# EAGLE library part KSZ8895 (library microchip)
KSZ8895 edit this description Auto generated by make-symbol-device-package-bsdl.ulp Rev. 44 Source: KSZ8895.txt
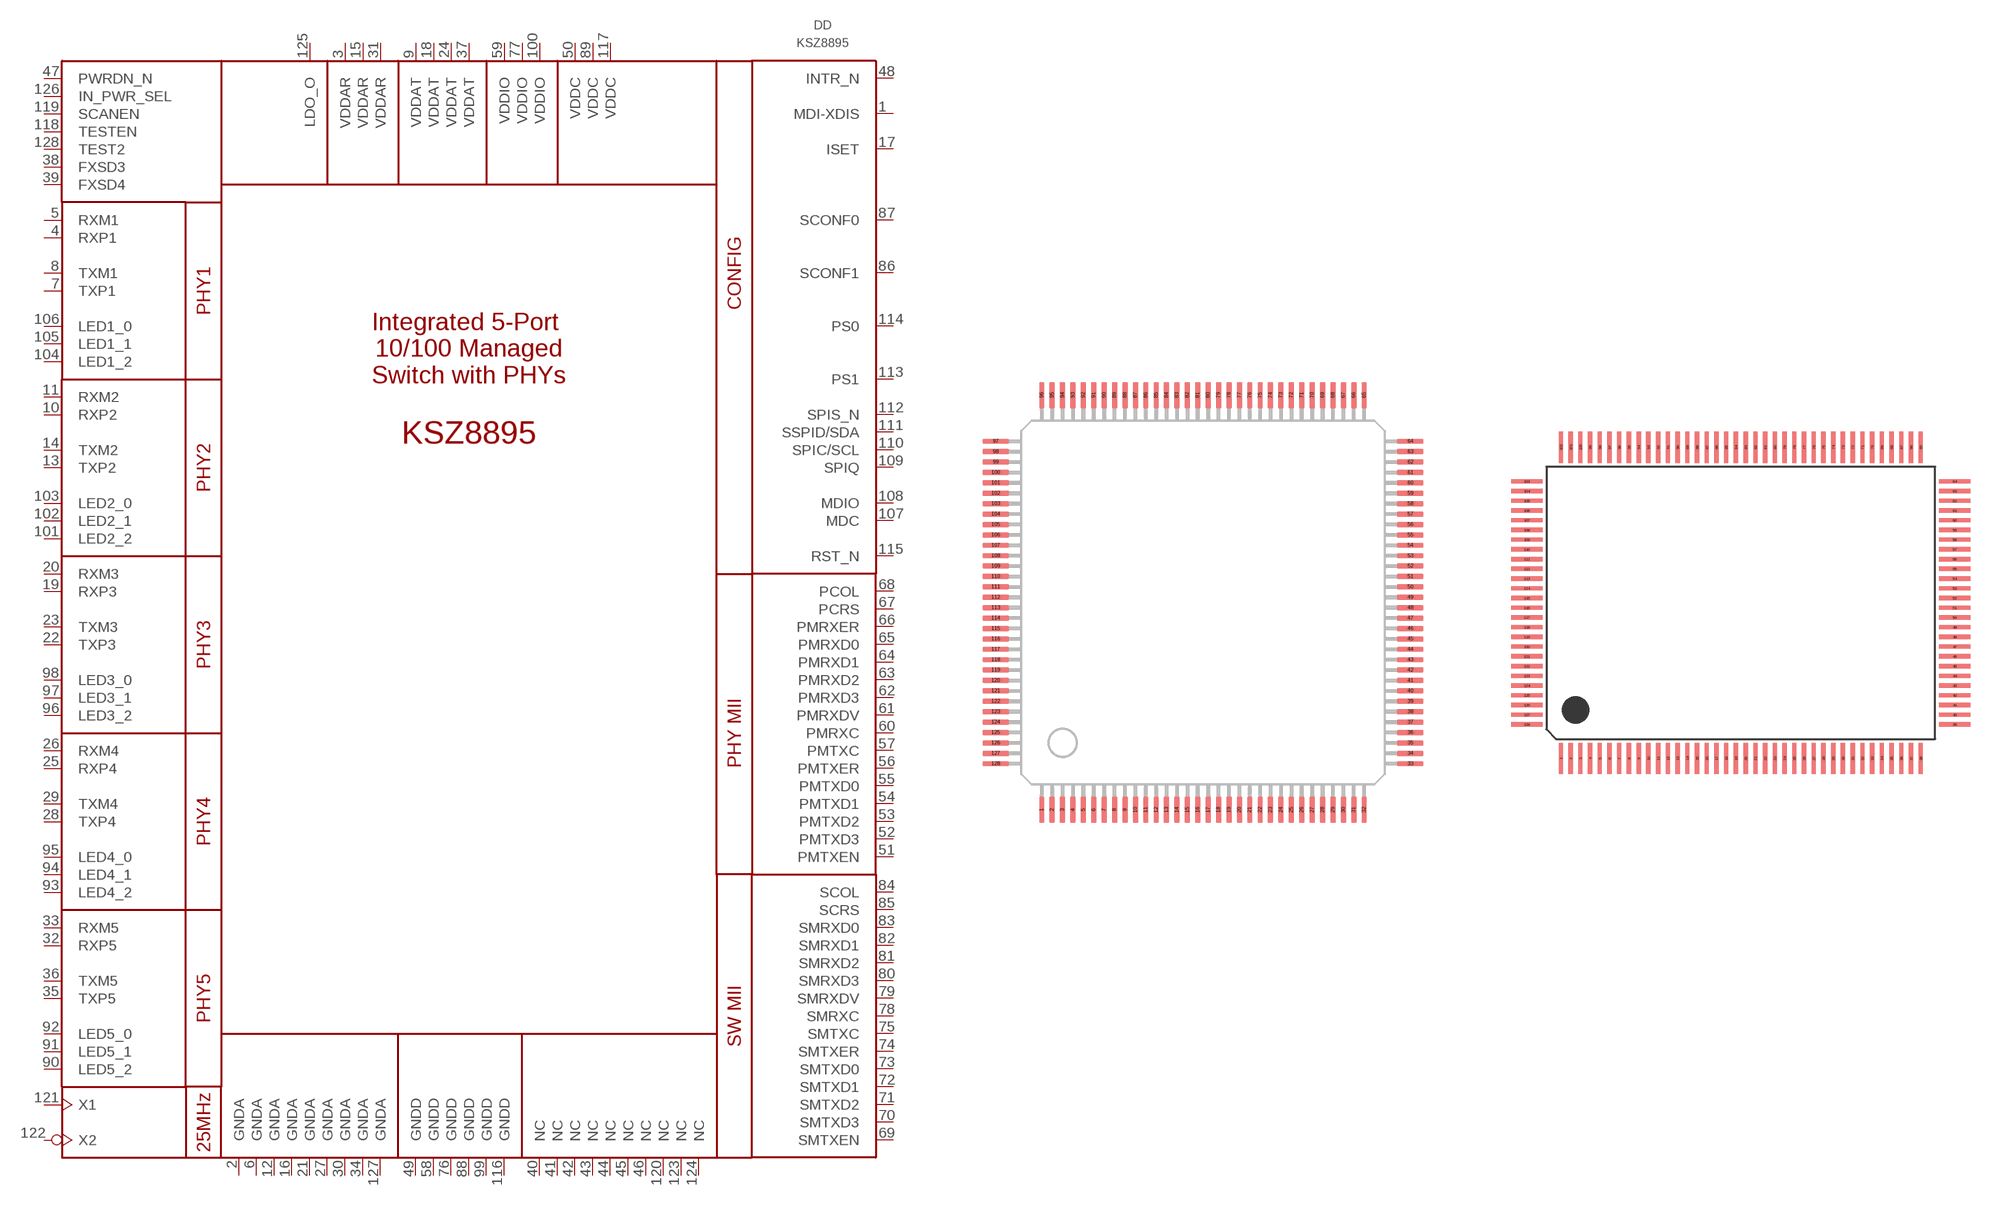
[diagram p4: symbol with the pads of LQFP128; footprints LQFP128, PQFP128]

Designator prefix DD

## KSZ8895MLXI  [LQFP128]
1  MDI-XDIS  in
2  GNDA  pwr
3  VDDAR  pwr
4  RXP1  in
5  RXM1  in
6  GNDA  pwr
7  TXP1  out
8  TXM1  out
9  VDDAT  pwr
10  RXP2  in
11  RXM2  in
12  GNDA  pwr
13  TXP2  out
14  TXM2  out
15  VDDAR  pwr
16  GNDA  pwr
17  ISET  pas
18  VDDAT  pwr
19  RXP3  in
20  RXM3  in
21  GNDA  pwr
22  TXP3  out
23  TXM3  out
24  VDDAT  pwr
25  RXP4  in
26  RXM4  in
27  GNDA  pwr
28  TXP4  out
29  TXM4  out
30  GNDA  pwr
31  VDDAR  pwr
32  RXP5  in
33  RXM5  in
34  GNDA  pwr
35  TXP5  out
36  TXM5  out
37  VDDAT  pwr
38  FXSD3  in
39  FXSD4  in
40  NC  nc
41  NC  nc
42  NC  nc
43  NC  nc
44  NC  nc
45  NC  nc
46  NC  nc
47  PWRDN_N  in
48  INTR_N  out
49  GNDD  pwr
50  VDDC  pwr
51  PMTXEN  in
52  PMTXD3  in
53  PMTXD2  in
54  PMTXD1  in
55  PMTXD0  in
56  PMTXER  in
57  PMTXC
58  GNDD  pwr
59  VDDIO  pwr
60  PMRXC
61  PMRXDV
62  PMRXD3
63  PMRXD2
64  PMRXD1
65  PMRXD0
66  PMRXER
67  PCRS
68  PCOL
69  SMTXEN  in
70  SMTXD3  in
71  SMTXD2  in
72  SMTXD1  in
73  SMTXD0  in
74  SMTXER  in
75  SMTXC
76  GNDD  pwr
77  VDDIO  pwr
78  SMRXC
79  SMRXDV
80  SMRXD3
81  SMRXD2
82  SMRXD1
83  SMRXD0
84  SCOL
85  SCRS
86  SCONF1  in
87  SCONF0  in
88  GNDD  pwr
89  VDDC  pwr
90  LED5_2  out
91  LED5_1  out
92  LED5_0  out
93  LED4_2  out
94  LED4_1  out
95  LED4_0  out
96  LED3_2  out
97  LED3_1  out
98  LED3_0  out
99  GNDD  pwr
100  VDDIO  pwr
101  LED2_2  out
102  LED2_1  out
103  LED2_0  out
104  LED1_2  out
105  LED1_1  out
106  LED1_0  out
107  MDC  out
108  MDIO  out
109  SPIQ  out
110  SPIC/SCL  in
111  SSPID/SDA  in
112  SPIS_N  in
113  PS1  in
114  PS0  in
115  RST_N  in
116  GNDD  pwr
117  VDDC  pwr
118  TESTEN  nc
119  SCANEN  nc
120  NC  nc
121  X1  in
122  X2  out
123  NC  nc
124  NC  nc
125  LDO_O  pwr
126  IN_PWR_SEL  in
127  GNDA  pwr
128  TEST2  nc

## KSZ8895MQXI  [PQFP128]
Pads as for LQFP128

## KSZ8895RQXI  [PQFP128]
Pads as for LQFP128

## KSZ8895FQXI  [PQFP128]
Pads as for LQFP128

## Footprint LQFP128 (pad centres in mm)
smd 0.2 x 1: 1 -6.2,-7.975; 2 -5.8,-7.975; 3 -5.4,-7.975; 4 -5,-7.975; 5 -4.6,-7.975; 6 -4.2,-7.975; 7 -3.8,-7.975; 8 -3.4,-7.975; 9 -3,-7.975; 10 -2.6,-7.975; 11 -2.2,-7.975; 12 -1.8,-7.975; 13 -1.4,-7.975; 14 -1,-7.975; 15 -0.6,-7.975; 16 -0.2,-7.975; 17 0.2,-7.975; 18 0.6,-7.975; 19 1,-7.975; 20 1.4,-7.975; 21 1.8,-7.975; 22 2.2,-7.975; 23 2.6,-7.975; 24 3,-7.975; 25 3.4,-7.975; 26 3.8,-7.975; 27 4.2,-7.975; 28 4.6,-7.975; 29 5,-7.975; 30 5.4,-7.975; 31 5.8,-7.975; 32 6.2,-7.975; 65 6.2,7.975; 66 5.8,7.975; 67 5.4,7.975; 68 5,7.975; 69 4.6,7.975; 70 4.2,7.975; 71 3.8,7.975; 72 3.4,7.975; 73 3,7.975; 74 2.6,7.975; 75 2.2,7.975; 76 1.8,7.975; 77 1.4,7.975; 78 1,7.975; 79 0.6,7.975; 80 0.2,7.975; 81 -0.2,7.975; 82 -0.6,7.975; 83 -1,7.975; 84 -1.4,7.975; 85 -1.8,7.975; 86 -2.2,7.975; 87 -2.6,7.975; 88 -3,7.975; 89 -3.4,7.975; 90 -3.8,7.975; 91 -4.2,7.975; 92 -4.6,7.975; 93 -5,7.975; 94 -5.4,7.975; 95 -5.8,7.975; 96 -6.2,7.975
smd 1 x 0.2: 33 7.975,-6.2; 34 7.975,-5.8; 35 7.975,-5.4; 36 7.975,-5; 37 7.975,-4.6; 38 7.975,-4.2; 39 7.975,-3.8; 40 7.975,-3.4; 41 7.975,-3; 42 7.975,-2.6; 43 7.975,-2.2; 44 7.975,-1.8; 45 7.975,-1.4; 46 7.975,-1; 47 7.975,-0.6; 48 7.975,-0.2; 49 7.975,0.2; 50 7.975,0.6; 51 7.975,1; 52 7.975,1.4; 53 7.975,1.8; 54 7.975,2.2; 55 7.975,2.6; 56 7.975,3; 57 7.975,3.4; 58 7.975,3.8; 59 7.975,4.2; 60 7.975,4.6; 61 7.975,5; 62 7.975,5.4; 63 7.975,5.8; 64 7.975,6.2; 97 -7.975,6.2; 98 -7.975,5.8; 99 -7.975,5.4; 100 -7.975,5; 101 -7.975,4.6; 102 -7.975,4.2; 103 -7.975,3.8; 104 -7.975,3.4; 105 -7.975,3; 106 -7.975,2.6; 107 -7.975,2.2; 108 -7.975,1.8; 109 -7.975,1.4; 110 -7.975,1; 111 -7.975,0.6; 112 -7.975,0.2; 113 -7.975,-0.2; 114 -7.975,-0.6; 115 -7.975,-1; 116 -7.975,-1.4; 117 -7.975,-1.8; 118 -7.975,-2.2; 119 -7.975,-2.6; 120 -7.975,-3; 121 -7.975,-3.4; 122 -7.975,-3.8; 123 -7.975,-4.2; 124 -7.975,-4.6; 125 -7.975,-5; 126 -7.975,-5.4; 127 -7.975,-5.8; 128 -7.975,-6.2

## Footprint PQFP128 (pad centres in mm)
smd 0.22 x 1.6: 1 -9.25,-8; 2 -8.75,-8; 3 -8.25,-8; 4 -7.75,-8; 5 -7.25,-8; 6 -6.75,-8; 7 -6.25,-8; 8 -5.75,-8; 9 -5.25,-8; 10 -4.75,-8; 11 -4.25,-8; 12 -3.75,-8; 13 -3.25,-8; 14 -2.75,-8; 15 -2.25,-8; 16 -1.75,-8; 17 -1.25,-8; 18 -0.75,-8; 19 -0.25,-8; 20 0.25,-8; 21 0.75,-8; 22 1.25,-8; 23 1.75,-8; 24 2.25,-8; 25 2.75,-8; 26 3.25,-8; 27 3.75,-8; 28 4.25,-8; 29 4.75,-8; 30 5.25,-8; 31 5.75,-8; 32 6.25,-8; 33 6.75,-8; 34 7.25,-8; 35 7.75,-8; 36 8.25,-8; 37 8.75,-8; 38 9.25,-8; 65 9.25,8; 66 8.75,8; 67 8.25,8; 68 7.75,8; 69 7.25,8; 70 6.75,8; 71 6.25,8; 72 5.75,8; 73 5.25,8; 74 4.75,8; 75 4.25,8; 76 3.75,8; 77 3.25,8; 78 2.75,8; 79 2.25,8; 80 1.75,8; 81 1.25,8; 82 0.75,8; 83 0.25,8; 84 -0.25,8; 85 -0.75,8; 86 -1.25,8; 87 -1.75,8; 88 -2.25,8; 89 -2.75,8; 90 -3.25,8; 91 -3.75,8; 92 -4.25,8; 93 -4.75,8; 94 -5.25,8; 95 -5.75,8; 96 -6.25,8; 97 -6.75,8; 98 -7.25,8; 99 -7.75,8; 100 -8.25,8; 101 -8.75,8; 102 -9.25,8
smd 1.6 x 0.22: 39 11,-6.25; 40 11,-5.75; 41 11,-5.25; 42 11,-4.75; 43 11,-4.25; 44 11,-3.75; 45 11,-3.25; 46 11,-2.75; 47 11,-2.25; 48 11,-1.75; 49 11,-1.25; 50 11,-0.75; 51 11,-0.25; 52 11,0.25; 53 11,0.75; 54 11,1.25; 55 11,1.75; 56 11,2.25; 57 11,2.75; 58 11,3.25; 59 11,3.75; 60 11,4.25; 61 11,4.75; 62 11,5.25; 63 11,5.75; 64 11,6.25; 103 -11,6.25; 104 -11,5.75; 105 -11,5.25; 106 -11,4.75; 107 -11,4.25; 108 -11,3.75; 109 -11,3.25; 110 -11,2.75; 111 -11,2.25; 112 -11,1.75; 113 -11,1.25; 114 -11,0.75; 115 -11,0.25; 116 -11,-0.25; 117 -11,-0.75; 118 -11,-1.25; 119 -11,-1.75; 120 -11,-2.25; 121 -11,-2.75; 122 -11,-3.25; 123 -11,-3.75; 124 -11,-4.25; 125 -11,-4.75; 126 -11,-5.25; 127 -11,-5.75; 128 -11,-6.25